# Altium schematic symbol library 2N7002.SchLib: 1 symbol
Pins are listed as number, name and electrical type; pins without a type are passive.

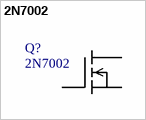
[diagram p0: symbol 2N7002]

## 2N7002
designator Q?
N-Channel 60 V 7.5 Ohm SMT Enhancement Mode Field Effect Transistor SOT-23; MF: ON Semiconductor; MP: 2N7002; Availability: Good; Package: SOT-23-3 ON Semiconductor; Price: 0.13 USD; SnapEDA_Link: https://www.snapeda.com/parts/2N7002/ON%20Semiconductor/view-part/?ref=snap; Value: *
footprint SOT23
pins: 1 G, 2 S, 3 D